# EAGLE library part STA311B (library 25cmsquare)
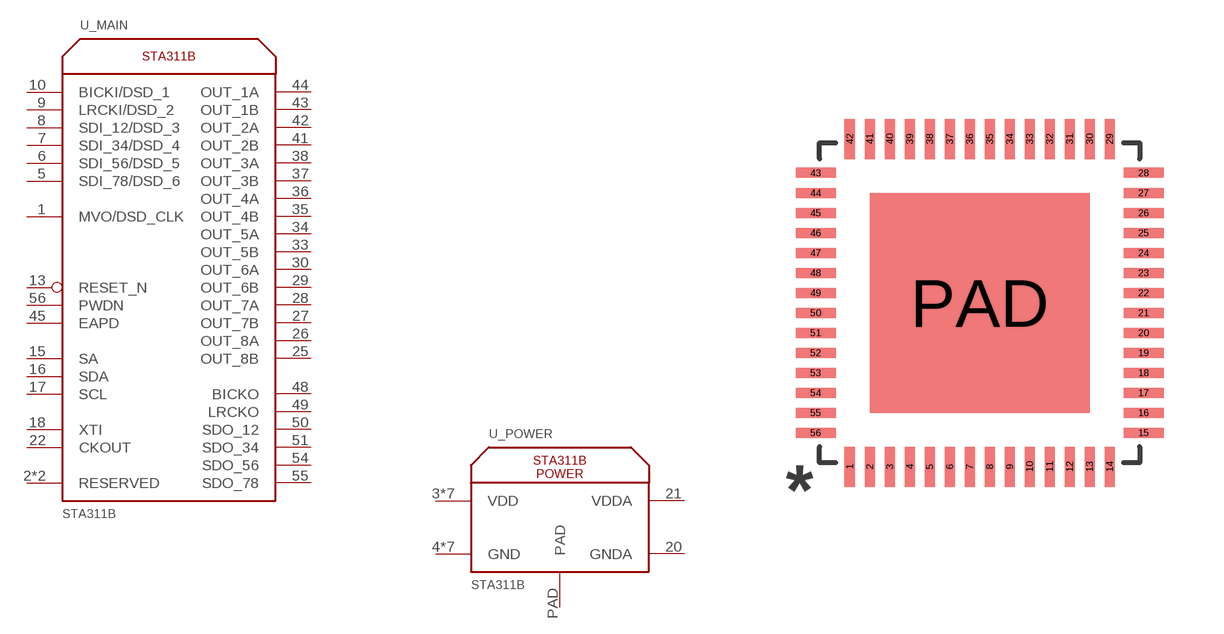
[diagram p18: symbol with the pads of VFQFPN_56_8X8; footprint VFQFPN_56_8X8]

Designator prefix -; gates _MAIN=STA311B _POWER=STA311B-POWER

## STA311B  [VFQFPN_56_8X8]
1  _MAIN:MVO/DSD_CLK
2  _MAIN:RESERVED
3  _POWER:VDD
4  _POWER:GND
5  _MAIN:SDI_78/DSD_6
6  _MAIN:SDI_56/DSD_5
7  _MAIN:SDI_34/DSD_4
8  _MAIN:SDI_12/DSD_3
9  _MAIN:LRCKI/DSD_2
10  _MAIN:BICKI/DSD_1
11  _POWER:VDD
12  _POWER:GND
13  _MAIN:RESET_N  in
14  _MAIN:RESERVED
15  _MAIN:SA
16  _MAIN:SDA
17  _MAIN:SCL
18  _MAIN:XTI
20  _POWER:GNDA
21  _POWER:VDDA
22  _MAIN:CKOUT
23  _POWER:GND
24  _POWER:VDD
25  _MAIN:OUT_8B
26  _MAIN:OUT_8A
27  _MAIN:OUT_7B
28  _MAIN:OUT_7A
29  _MAIN:OUT_6B
30  _MAIN:OUT_6A
31  _POWER:VDD
32  _POWER:GND
33  _MAIN:OUT_5B
34  _MAIN:OUT_5A
35  _MAIN:OUT_4B
36  _MAIN:OUT_4A
37  _MAIN:OUT_3B
38  _MAIN:OUT_3A
39  _POWER:VDD
40  _POWER:GND
41  _MAIN:OUT_2B
42  _MAIN:OUT_2A
43  _MAIN:OUT_1B
44  _MAIN:OUT_1A
45  _MAIN:EAPD
46  _POWER:VDD
47  _POWER:GND
48  _MAIN:BICKO
49  _MAIN:LRCKO
50  _MAIN:SDO_12
51  _MAIN:SDO_34
52  _POWER:VDD
53  _POWER:GND
54  _MAIN:SDO_56
55  _MAIN:SDO_78
56  _MAIN:PWDN
PAD  _POWER:PAD

## Footprint VFQFPN_56_8X8 (pad centres in mm)
smd 0.25 x 1: 1 -3.25,-4.1; 2 -2.75,-4.1; 3 -2.25,-4.1; 4 -1.75,-4.1; 5 -1.25,-4.1; 6 -0.75,-4.1; 7 -0.25,-4.1; 8 0.25,-4.1; 9 0.75,-4.1; 10 1.25,-4.1; 11 1.75,-4.1; 12 2.25,-4.1; 13 2.75,-4.1; 14 3.25,-4.1; 29 3.25,4.1; 30 2.75,4.1; 31 2.25,4.1; 32 1.75,4.1; 33 1.25,4.1; 34 0.75,4.1; 35 0.25,4.1; 36 -0.25,4.1; 37 -0.75,4.1; 38 -1.25,4.1; 39 -1.75,4.1; 40 -2.25,4.1; 41 -2.75,4.1; 42 -3.25,4.1
smd 1 x 0.25: 15 4.1,-3.25; 16 4.1,-2.75; 17 4.1,-2.25; 18 4.1,-1.75; 19 4.1,-1.25; 20 4.1,-0.75; 21 4.1,-0.25; 22 4.1,0.25; 23 4.1,0.75; 24 4.1,1.25; 25 4.1,1.75; 26 4.1,2.25; 27 4.1,2.75; 28 4.1,3.25; 43 -4.1,3.25; 44 -4.1,2.75; 45 -4.1,2.25; 46 -4.1,1.75; 47 -4.1,1.25; 48 -4.1,0.75; 49 -4.1,0.25; 50 -4.1,-0.25; 51 -4.1,-0.75; 52 -4.1,-1.25; 53 -4.1,-1.75; 54 -4.1,-2.25; 55 -4.1,-2.75; 56 -4.1,-3.25
smd 5.5 x 5.5: PAD 0,0